# Altium schematic symbol library BuckConverterAP64500.SchLib: 9 symbols
Pins are listed as number, name and electrical type; pins without a type are passive.

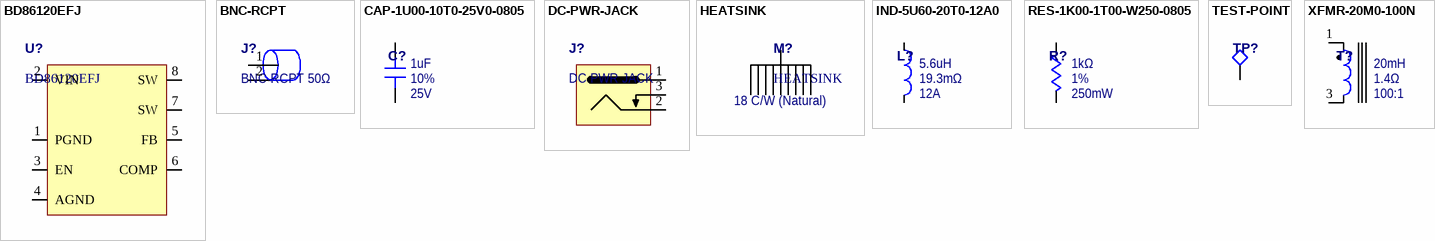
[diagram p0: symbols BD86120EFJ to XFMR-20M0-100N]

## BD86120EFJ
designator U?
Synchronous Buck Converter, 4.5V-18V, 5A; Supplier 1: Digi-Key; Supplier Part Number 1: BD86120EFJ-E2CT-ND
pins: 1 PGND (power), 2 VIN (power), 3 EN, 4 AGND (power), 5 FB, 6 COMP, 7 SW, 8 SW

## BNC-RCPT
designator J?, comment BNC RCPT 50Ω
BNC Receptacle, 50Ω; Supplier 1: Digi-Key; Supplier Part Number 1: WM5524-ND
pins: 1 12, 2 12

## CAP-1U00-10T0-25V0-0805
designator C?, comment value 1uF  Voltage: 25V  Tolerance: 10%  (hidden comment: 1276-1066-1-ND)
CAP, 1.0uF ±10.0%, 25V, 0805; Supplier 1: Digi-Key; Supplier Part Number 1: 1276-1066-1-ND
pins: 1, 2

## DC-PWR-JACK
designator J?, comment DC PWR JACK
DC Power Jack, 48V, 6.5A; Supplier 1: Digi-Key; Supplier Part Number 1: 839-54-00165CT-ND
pins: 1 9, 2 11, 3 10

## HEATSINK
designator M?  Theta: 18 C/W (Natural)
Heatsink, 18C/W @ Natural; Supplier 1: Digi-Key; Supplier Part Number 1: ATS2115-ND
pins: 1 8

## IND-5U60-20T0-12A0
designator L?, comment value 5.6uH  Irms: 12A  DCR: 19.3mΩ  (hidden comment: SRP1038C-5R6MCT-ND)
IND, 5.6uH ±20.0%, 19.3mΩ DCR, 12A Irms; Supplier 1: Digi-Key; Supplier Part Number 1: SRP1038C-5R6MCT-ND
pins: 1, 2

## RES-1K00-1T00-W250-0805
designator R?, comment value 1kΩ  Tolerance: 1%  Power: 250mW  (hidden comment: RNCP0805FTD1K00CT-ND)
RES, 1.00kΩ ±1.00%, 250mW, 0805; Supplier 1: Digi-Key; Supplier Part Number 1: RNCP0805FTD1K00CT-ND
pins: 1, 2

## TEST-POINT
designator TP?, comment 36-1033-ND  (value not drawn)
Test Point Loop; Supplier 1: Digi-Key; Supplier Part Number 1: 36-1033-ND
pins: 1 12

## XFMR-20M0-100N
designator T?, comment value 20mH  N: 100:1  DCR: 1.4Ω  (hidden comment: 553-1543-ND)
XFMR, 20mH, 1.4Ω DCR, 100:1; Supplier 1: Digi-Key; Supplier Part Number 1: 553-1543-ND
pins: 1, 3